# EAGLE library part S25L064P (library cypress)
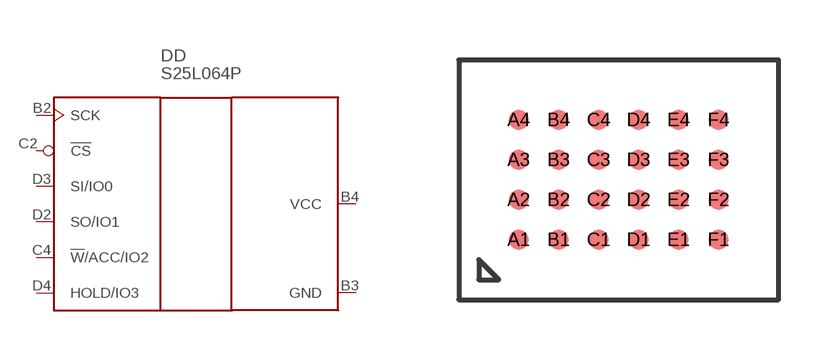
[diagram p0: symbol with the pads of FAC024; footprint FAC024]

Designator prefix DD

## S25L064P  [FAC024]
B2  SCK  in
B3  GND  pwr
B4  VCC  pwr
C2  !CS  in
C4  !W!/ACC/IO2
D2  SO/IO1
D3  SI/IO0
D4  HOLD/IO3

## Footprint FAC024 (pad centres in mm)
smd 0.5 x 0.5: A1 -2.5,-1.5; A2 -2.5,-0.5; A3 -2.5,0.5; A4 -2.5,1.5; B1 -1.5,-1.5; B2 -1.5,-0.5; B3 -1.5,0.5; B4 -1.5,1.5; C1 -0.5,-1.5; C2 -0.5,-0.5; C3 -0.5,0.5; C4 -0.5,1.5; D1 0.5,-1.5; D2 0.5,-0.5; D3 0.5,0.5; D4 0.5,1.5; E1 1.5,-1.5; E2 1.5,-0.5; E3 1.5,0.5; E4 1.5,1.5; F1 2.5,-1.5; F2 2.5,-0.5; F3 2.5,0.5; F4 2.5,1.5